# Altium footprint library CAP_220uF_RADIAL_SMD.PcbLib: 1 footprints
Each footprint in its own frame and in the unit in brackets; x right, y up, seen from the top. Pads: shape width x height; smd on the part's side, far side on the other; paste and mask are expansions set on the pad; w line width, h text height; cw(c..) or ccw(c..) is an arc to the next point about the centre after c.
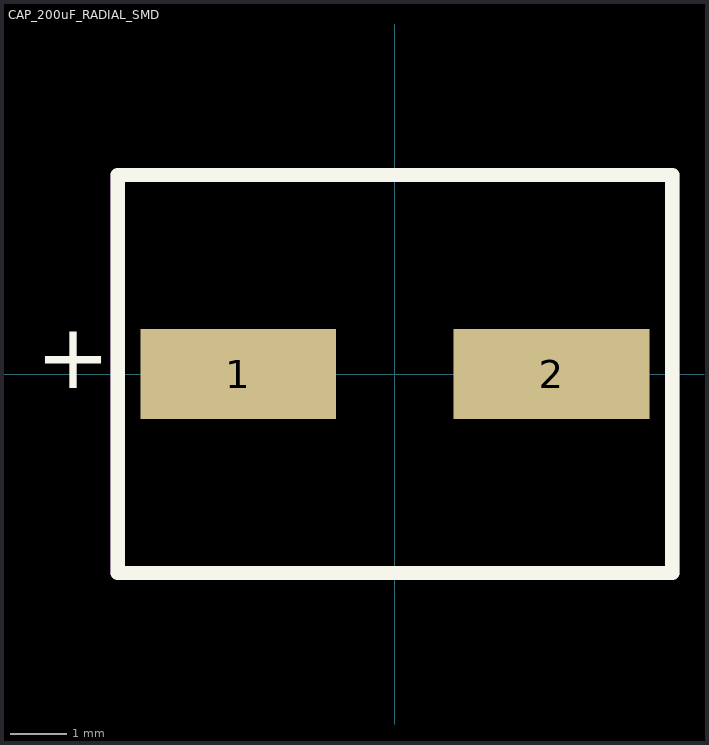
[diagram p0: the footprint, top view; thin cyan lines are the x and y axes]

## CAP_200uF_RADIAL_SMD [mm]
pads (2):
  rect 3.5x1.6 smd: 1(-2.8,0) 2(2.8,0)
Top Overlay:
  lines w0.254: -4.953,-3.556 4.953,-3.556 4.953,3.556 -4.953,3.556 -4.953,-3.556
  text "+" at -6.417,-0.635 h2
Mechanical 1:
  lines w0.254: -4.953,-3.556 4.953,-3.556 4.953,3.556 -4.953,3.556 -4.953,-3.556
  text ".designator" at -1.64,-0.254 h0.64
3D body "CAP_220uF_RADIAL_SMD.step": height 7.55, standoff -0.15, extent -3.65,-3.3 3.65,3.3